# Altium integrated library Capacitors - Ceramic - 0402.IntLib: 4569 symbols (part 97 of 100)
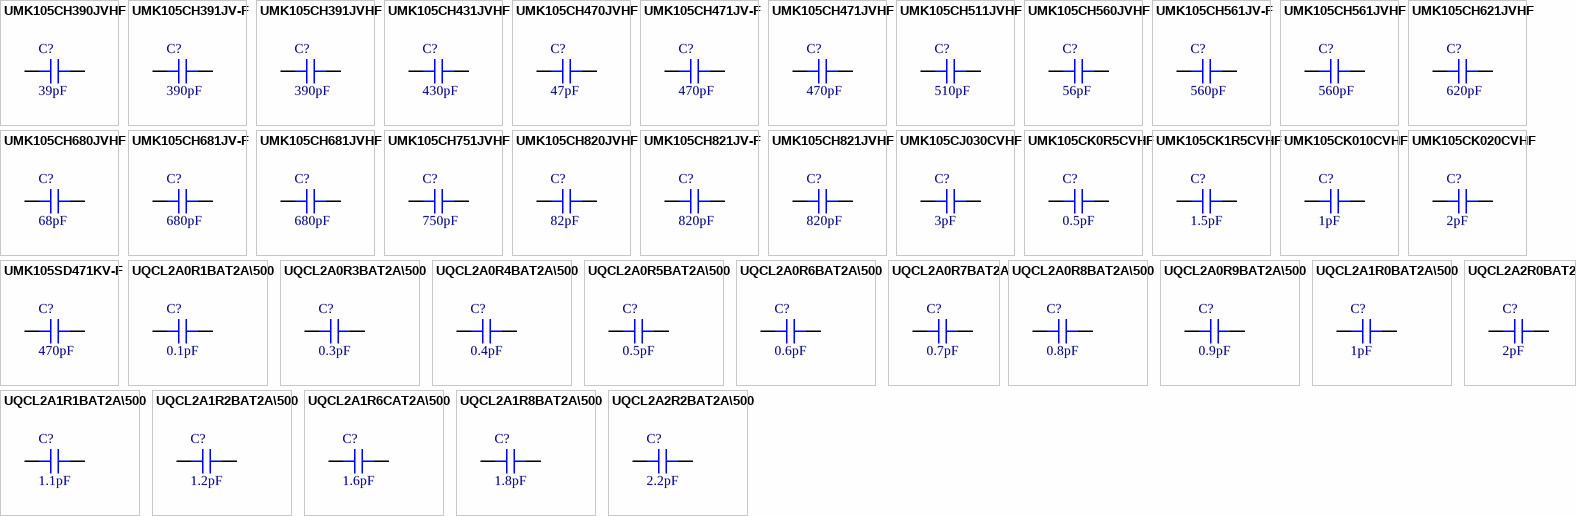
[diagram p210: symbols UMK105CH390JVHF to UQCL2A2R2BAT2A\500]

## UMK105CH470JVHF
designator C?, comment 47pF
CAP CER 47PF 50V CH 0402; Part Number: UMK105CH470JVHF; Manufacturer: Taiyo Yuden; Tolerance: ±5%; Value: 47pF; Applications: Automotive; Capacitance: 47pF; ComponentLink2Description: DigiKey Link; ComponentLink2URL: http://digikey.com/product-detail/en/taiyo-yuden/UMK105CH470JVHF/587-5087-1-ND/6563930; Device Package: 0402 (1005 Metric); LastUpdated: 9/2/2020 1:02:10 AM; Lifecycle Status: Active; Minimum Order: 1; Mounting Type: Surface Mount, MLCC; Package / Case: 0402 (1005 Metric); Packaging: TapeAndReel; PartId: 8107; Part Status: Active; Price: 0.01; Ratings: AEC-Q200; Series: M; Size / Dimension: 0.039" L x 0.020" W (1.00mm x 0.50mm); Supplier 1: DigiKey; Supplier Part Number 1: 587-5087-1-ND; Temperature Coefficient: CH; Voltage - Rated: 50V
footprint CAP 0402_1005
pins: 1, 2

## UMK105CH471JV-F
designator C?, comment 470pF
CAP CER 470PF 50V C0H SMD; Part Number: UMK105CH471JV-F; Manufacturer: Taiyo Yuden; Tolerance: ±5%; Value: 470pF; Applications: General Purpose; Capacitance: 470pF; ComponentLink1Description: Datasheet; ComponentLink1URL: //media.digikey.com/pdf/Data%20Sheets/Taiyo%20Yuden%20PDFs%20URL%20links/Standard_Multilayer_Ceramic_Caps_Rev11.pdf; ComponentLink2Description: DigiKey Link; ComponentLink2URL: http://digikey.com/product-detail/en/taiyo-yuden/UMK105CH471JV-F/587-5088-1-ND/6563931; Device Package: 0402 (1005 Metric); LastUpdated: 9/2/2020 1:02:06 AM; Lifecycle Status: Active; Minimum Order: 1; Mounting Type: Surface Mount, MLCC; Operating Temperature: -55°C ~ 125°C; Package / Case: 0402 (1005 Metric); Packaging: CutTape; PartId: 9961; Part Status: Active; Price: 0.10; Series: M; Size / Dimension: 0.039" L x 0.020" W (1.00mm x 0.50mm); Supplier 1: DigiKey; Supplier Part Number 1: 587-5088-1-ND; Temperature Coefficient: C0H; Thickness (Max): 0.022" (0.55mm); Voltage - Rated: 50V
footprint CAP 0402_1005
pins: 1, 2

## UMK105CH471JVHF
designator C?, comment 470pF
CAP CER 470PF 50V CH 0402; Part Number: UMK105CH471JVHF; Manufacturer: Taiyo Yuden; Tolerance: ±5%; Value: 470pF; Applications: Automotive; Capacitance: 470pF; ComponentLink2Description: DigiKey Link; ComponentLink2URL: http://digikey.com/product-detail/en/taiyo-yuden/UMK105CH471JVHF/587-5089-1-ND/6563932; Device Package: 0402 (1005 Metric); LastUpdated: 9/2/2020 1:02:11 AM; Lifecycle Status: Active; Minimum Order: 1; Mounting Type: Surface Mount, MLCC; Package / Case: 0402 (1005 Metric); Packaging: TapeAndReel; PartId: 7836; Part Status: Active; Price: 0.01; Ratings: AEC-Q200; Series: M; Size / Dimension: 0.039" L x 0.020" W (1.00mm x 0.50mm); Supplier 1: DigiKey; Supplier Part Number 1: 587-5089-1-ND; Temperature Coefficient: CH; Voltage - Rated: 50V
footprint CAP 0402_1005
pins: 1, 2

## UMK105CH511JVHF
designator C?, comment 510pF
CAP CER 510PF 50V CH 0402; Part Number: UMK105CH511JVHF; Manufacturer: Taiyo Yuden; Tolerance: ±5%; Value: 510pF; Applications: Automotive; Capacitance: 510pF; ComponentLink2Description: DigiKey Link; ComponentLink2URL: http://digikey.com/product-detail/en/taiyo-yuden/UMK105CH511JVHF/587-5090-1-ND/6563933; Device Package: 0402 (1005 Metric); LastUpdated: 9/2/2020 1:02:16 AM; Lifecycle Status: Active; Minimum Order: 1; Mounting Type: Surface Mount, MLCC; Package / Case: 0402 (1005 Metric); Packaging: TapeAndReel; PartId: 5204; Part Status: Active; Price: 0.01; Ratings: AEC-Q200; Series: M; Size / Dimension: 0.039" L x 0.020" W (1.00mm x 0.50mm); Supplier 1: DigiKey; Supplier Part Number 1: 587-5090-1-ND; Temperature Coefficient: CH; Voltage - Rated: 50V
footprint CAP 0402_1005
pins: 1, 2

## UMK105CH560JVHF
designator C?, comment 56pF
CAP CER 56PF 50V CH 0402; Part Number: UMK105CH560JVHF; Manufacturer: Taiyo Yuden; Tolerance: ±5%; Value: 56pF; Applications: Automotive; Capacitance: 56pF; ComponentLink2Description: DigiKey Link; ComponentLink2URL: http://digikey.com/product-detail/en/taiyo-yuden/UMK105CH560JVHF/587-5091-1-ND/6563934; Device Package: 0402 (1005 Metric); LastUpdated: 9/2/2020 1:02:24 AM; Lifecycle Status: Active; Minimum Order: 1; Mounting Type: Surface Mount, MLCC; Package / Case: 0402 (1005 Metric); Packaging: TapeAndReel; PartId: 1916; Part Status: Active; Price: 0.01; Ratings: AEC-Q200; Series: M; Size / Dimension: 0.039" L x 0.020" W (1.00mm x 0.50mm); Supplier 1: DigiKey; Supplier Part Number 1: 587-5091-1-ND; Temperature Coefficient: CH; Voltage - Rated: 50V
footprint CAP 0402_1005
pins: 1, 2

## UMK105CH561JV-F
designator C?, comment 560pF
CAP CER 560PF 50V C0H SMD; Part Number: UMK105CH561JV-F; Manufacturer: Taiyo Yuden; Tolerance: ±5%; Value: 560pF; Applications: General Purpose; Capacitance: 560pF; ComponentLink1Description: Datasheet; ComponentLink1URL: //media.digikey.com/pdf/Data%20Sheets/Taiyo%20Yuden%20PDFs%20URL%20links/Standard_Multilayer_Ceramic_Caps_Rev11.pdf; ComponentLink2Description: DigiKey Link; ComponentLink2URL: http://digikey.com/product-detail/en/taiyo-yuden/UMK105CH561JV-F/587-5092-1-ND/6563935; Device Package: 0402 (1005 Metric); LastUpdated: 9/2/2020 1:02:25 AM; Lifecycle Status: Active; Minimum Order: 1; Mounting Type: Surface Mount, MLCC; Operating Temperature: -55°C ~ 125°C; Package / Case: 0402 (1005 Metric); Packaging: TapeAndReel; PartId: 1874; Part Status: Active; Price: 0.01; Series: M; Size / Dimension: 0.039" L x 0.020" W (1.00mm x 0.50mm); Supplier 1: DigiKey; Supplier Part Number 1: 587-5092-1-ND; Temperature Coefficient: C0H; Thickness (Max): 0.022" (0.55mm); Voltage - Rated: 50V
footprint CAP 0402_1005
pins: 1, 2

## UMK105CH561JVHF
designator C?, comment 560pF
CAP CER 560PF 50V CH 0402; Part Number: UMK105CH561JVHF; Manufacturer: Taiyo Yuden; Tolerance: ±5%; Value: 560pF; Applications: Automotive; Capacitance: 560pF; ComponentLink2Description: DigiKey Link; ComponentLink2URL: http://digikey.com/product-detail/en/taiyo-yuden/UMK105CH561JVHF/587-5093-1-ND/6563936; Device Package: 0402 (1005 Metric); LastUpdated: 9/2/2020 1:02:17 AM; Lifecycle Status: Active; Minimum Order: 1; Mounting Type: Surface Mount, MLCC; Package / Case: 0402 (1005 Metric); Packaging: TapeAndReel; PartId: 5173; Part Status: Active; Price: 0.01; Ratings: AEC-Q200; Series: M; Size / Dimension: 0.039" L x 0.020" W (1.00mm x 0.50mm); Supplier 1: DigiKey; Supplier Part Number 1: 587-5093-1-ND; Temperature Coefficient: CH; Voltage - Rated: 50V
footprint CAP 0402_1005
pins: 1, 2

## UMK105CH621JVHF
designator C?, comment 620pF
CAP CER 620PF 50V CH 0402; Part Number: UMK105CH621JVHF; Manufacturer: Taiyo Yuden; Tolerance: ±5%; Value: 620pF; Applications: Automotive; Capacitance: 620pF; ComponentLink2Description: DigiKey Link; ComponentLink2URL: http://digikey.com/product-detail/en/taiyo-yuden/UMK105CH621JVHF/587-5094-1-ND/6563937; Device Package: 0402 (1005 Metric); LastUpdated: 9/2/2020 1:02:12 AM; Lifecycle Status: Active; Minimum Order: 1; Mounting Type: Surface Mount, MLCC; Package / Case: 0402 (1005 Metric); Packaging: TapeAndReel; PartId: 7377; Part Status: Active; Price: 0.01; Ratings: AEC-Q200; Series: M; Size / Dimension: 0.039" L x 0.020" W (1.00mm x 0.50mm); Supplier 1: DigiKey; Supplier Part Number 1: 587-5094-1-ND; Temperature Coefficient: CH; Voltage - Rated: 50V
footprint CAP 0402_1005
pins: 1, 2

## UMK105CH680JVHF
designator C?, comment 68pF
CAP CER 68PF 50V CH 0402; Part Number: UMK105CH680JVHF; Manufacturer: Taiyo Yuden; Tolerance: ±5%; Value: 68pF; Applications: Automotive; Capacitance: 68pF; ComponentLink2Description: DigiKey Link; ComponentLink2URL: http://digikey.com/product-detail/en/taiyo-yuden/UMK105CH680JVHF/587-5095-1-ND/6563938; Device Package: 0402 (1005 Metric); LastUpdated: 9/2/2020 1:02:24 AM; Lifecycle Status: Active; Minimum Order: 1; Mounting Type: Surface Mount, MLCC; Package / Case: 0402 (1005 Metric); Packaging: TapeAndReel; PartId: 1967; Part Status: Active; Price: 0.01; Ratings: AEC-Q200; Series: M; Size / Dimension: 0.039" L x 0.020" W (1.00mm x 0.50mm); Supplier 1: DigiKey; Supplier Part Number 1: 587-5095-1-ND; Temperature Coefficient: CH; Voltage - Rated: 50V
footprint CAP 0402_1005
pins: 1, 2

## UMK105CH681JV-F
designator C?, comment 680pF
CAP CER 680PF 50V C0H SMD; Part Number: UMK105CH681JV-F; Manufacturer: Taiyo Yuden; Tolerance: ±5%; Value: 680pF; Applications: General Purpose; Capacitance: 680pF; ComponentLink1Description: Datasheet; ComponentLink1URL: //media.digikey.com/pdf/Data%20Sheets/Taiyo%20Yuden%20PDFs%20URL%20links/Standard_Multilayer_Ceramic_Caps_Rev11.pdf; ComponentLink2Description: DigiKey Link; ComponentLink2URL: http://digikey.com/product-detail/en/taiyo-yuden/UMK105CH681JV-F/587-5096-1-ND/6563939; Device Package: 0402 (1005 Metric); LastUpdated: 9/2/2020 1:02:08 AM; Lifecycle Status: Active; Minimum Order: 1; Mounting Type: Surface Mount, MLCC; Operating Temperature: -55°C ~ 125°C; Package / Case: 0402 (1005 Metric); Packaging: TapeAndReel; PartId: 8973; Part Status: Active; Price: 0.01; Series: M; Size / Dimension: 0.039" L x 0.020" W (1.00mm x 0.50mm); Supplier 1: DigiKey; Supplier Part Number 1: 587-5096-1-ND; Temperature Coefficient: C0H; Thickness (Max): 0.022" (0.55mm); Voltage - Rated: 50V
footprint CAP 0402_1005
pins: 1, 2

## UMK105CH681JVHF
designator C?, comment 680pF
CAP CER 680PF 50V CH 0402; Part Number: UMK105CH681JVHF; Manufacturer: Taiyo Yuden; Tolerance: ±5%; Value: 680pF; Applications: Automotive; Capacitance: 680pF; ComponentLink2Description: DigiKey Link; ComponentLink2URL: http://digikey.com/product-detail/en/taiyo-yuden/UMK105CH681JVHF/587-5097-1-ND/6563940; Device Package: 0402 (1005 Metric); LastUpdated: 9/2/2020 1:02:11 AM; Lifecycle Status: Active; Minimum Order: 1; Mounting Type: Surface Mount, MLCC; Package / Case: 0402 (1005 Metric); Packaging: TapeAndReel; PartId: 7858; Part Status: Active; Price: 0.01; Ratings: AEC-Q200; Series: M; Size / Dimension: 0.039" L x 0.020" W (1.00mm x 0.50mm); Supplier 1: DigiKey; Supplier Part Number 1: 587-5097-1-ND; Temperature Coefficient: CH; Voltage - Rated: 50V
footprint CAP 0402_1005
pins: 1, 2

## UMK105CH751JVHF
designator C?, comment 750pF
CAP CER 750PF 50V CH 0402; Part Number: UMK105CH751JVHF; Manufacturer: Taiyo Yuden; Tolerance: ±5%; Value: 750pF; Applications: Automotive; Capacitance: 750pF; ComponentLink2Description: DigiKey Link; ComponentLink2URL: http://digikey.com/product-detail/en/taiyo-yuden/UMK105CH751JVHF/587-5098-1-ND/6563941; Device Package: 0402 (1005 Metric); LastUpdated: 9/2/2020 1:02:17 AM; Lifecycle Status: Active; Minimum Order: 1; Mounting Type: Surface Mount, MLCC; Package / Case: 0402 (1005 Metric); Packaging: TapeAndReel; PartId: 5147; Part Status: Active; Price: 0.01; Ratings: AEC-Q200; Series: M; Size / Dimension: 0.039" L x 0.020" W (1.00mm x 0.50mm); Supplier 1: DigiKey; Supplier Part Number 1: 587-5098-1-ND; Temperature Coefficient: CH; Voltage - Rated: 50V
footprint CAP 0402_1005
pins: 1, 2

## UMK105CH820JVHF
designator C?, comment 82pF
CAP CER 82PF 50V CH 0402; Part Number: UMK105CH820JVHF; Manufacturer: Taiyo Yuden; Tolerance: ±5%; Value: 82pF; Applications: Automotive; Capacitance: 82pF; ComponentLink2Description: DigiKey Link; ComponentLink2URL: http://digikey.com/product-detail/en/taiyo-yuden/UMK105CH820JVHF/587-5099-1-ND/6563942; Device Package: 0402 (1005 Metric); LastUpdated: 9/2/2020 1:02:20 AM; Lifecycle Status: Active; Minimum Order: 1; Mounting Type: Surface Mount, MLCC; Package / Case: 0402 (1005 Metric); Packaging: TapeAndReel; PartId: 3603; Part Status: Active; Price: 0.01; Ratings: AEC-Q200; Series: M; Size / Dimension: 0.039" L x 0.020" W (1.00mm x 0.50mm); Supplier 1: DigiKey; Supplier Part Number 1: 587-5099-1-ND; Temperature Coefficient: CH; Voltage - Rated: 50V
footprint CAP 0402_1005
pins: 1, 2

## UMK105CH821JV-F
designator C?, comment 820pF
CAP CER 820PF 50V C0H SMD; Part Number: UMK105CH821JV-F; Manufacturer: Taiyo Yuden; Tolerance: ±5%; Value: 820pF; Applications: General Purpose; Capacitance: 820pF; ComponentLink1Description: Datasheet; ComponentLink1URL: //media.digikey.com/pdf/Data%20Sheets/Taiyo%20Yuden%20PDFs%20URL%20links/Standard_Multilayer_Ceramic_Caps_Rev11.pdf; ComponentLink2Description: DigiKey Link; ComponentLink2URL: http://digikey.com/product-detail/en/taiyo-yuden/UMK105CH821JV-F/587-5100-1-ND/6563943; Device Package: 0402 (1005 Metric); LastUpdated: 9/2/2020 1:02:24 AM; Lifecycle Status: Active; Minimum Order: 1; Mounting Type: Surface Mount, MLCC; Operating Temperature: -55°C ~ 125°C; Package / Case: 0402 (1005 Metric); Packaging: TapeAndReel; PartId: 1920; Part Status: Active; Price: 0.01; Series: M; Size / Dimension: 0.039" L x 0.020" W (1.00mm x 0.50mm); Supplier 1: DigiKey; Supplier Part Number 1: 587-5100-1-ND; Temperature Coefficient: C0H; Thickness (Max): 0.022" (0.55mm); Voltage - Rated: 50V
footprint CAP 0402_1005
pins: 1, 2

## UMK105CH821JVHF
designator C?, comment 820pF
CAP CER 820PF 50V CH 0402; Part Number: UMK105CH821JVHF; Manufacturer: Taiyo Yuden; Tolerance: ±5%; Value: 820pF; Applications: Automotive; Capacitance: 820pF; ComponentLink2Description: DigiKey Link; ComponentLink2URL: http://digikey.com/product-detail/en/taiyo-yuden/UMK105CH821JVHF/587-5101-1-ND/6563944; Device Package: 0402 (1005 Metric); LastUpdated: 9/2/2020 1:02:16 AM; Lifecycle Status: Active; Minimum Order: 1; Mounting Type: Surface Mount, MLCC; Package / Case: 0402 (1005 Metric); Packaging: TapeAndReel; PartId: 5207; Part Status: Active; Price: 0.01; Ratings: AEC-Q200; Series: M; Size / Dimension: 0.039" L x 0.020" W (1.00mm x 0.50mm); Supplier 1: DigiKey; Supplier Part Number 1: 587-5101-1-ND; Temperature Coefficient: CH; Voltage - Rated: 50V
footprint CAP 0402_1005
pins: 1, 2

## UMK105CJ030CVHF
designator C?, comment 3pF
CAP CER 3PF 50V CH 0402; Part Number: UMK105CJ030CVHF; Manufacturer: Taiyo Yuden; Tolerance: ±0.25pF; Value: 3pF; Applications: Automotive; Capacitance: 3pF; ComponentLink2Description: DigiKey Link; ComponentLink2URL: http://digikey.com/product-detail/en/taiyo-yuden/UMK105CJ030CVHF/587-5102-1-ND/6563945; Device Package: 0402 (1005 Metric); LastUpdated: 9/2/2020 1:02:24 AM; Lifecycle Status: Active; Minimum Order: 1; Mounting Type: Surface Mount, MLCC; Package / Case: 0402 (1005 Metric); Packaging: TapeAndReel; PartId: 1895; Part Status: Active; Price: 0.01; Ratings: AEC-Q200; Series: M; Size / Dimension: 0.039" L x 0.020" W (1.00mm x 0.50mm); Supplier 1: DigiKey; Supplier Part Number 1: 587-5102-1-ND; Temperature Coefficient: CH; Voltage - Rated: 50V
footprint CAP 0402_1005
pins: 1, 2

## UMK105CK0R5CVHF
designator C?, comment 0.5pF
CAP CER 0.5PF 50V CH 0402; Part Number: UMK105CK0R5CVHF; Manufacturer: Taiyo Yuden; Tolerance: ±0.25pF; Value: 0.5pF; Applications: Automotive; Capacitance: 0.5pF; ComponentLink2Description: DigiKey Link; ComponentLink2URL: http://digikey.com/product-detail/en/taiyo-yuden/UMK105CK0R5CVHF/587-5105-1-ND/6563948; Device Package: 0402 (1005 Metric); LastUpdated: 9/2/2020 1:02:24 AM; Lifecycle Status: Active; Minimum Order: 1; Mounting Type: Surface Mount, MLCC; Package / Case: 0402 (1005 Metric); Packaging: TapeAndReel; PartId: 1885; Part Status: Active; Price: 0.01; Ratings: AEC-Q200; Series: M; Size / Dimension: 0.039" L x 0.020" W (1.00mm x 0.50mm); Supplier 1: DigiKey; Supplier Part Number 1: 587-5105-1-ND; Temperature Coefficient: CH; Voltage - Rated: 50V
footprint CAP 0402_1005
pins: 1, 2

## UMK105CK1R5CVHF
designator C?, comment 1.5pF
CAP CER 1.5PF 50V CH 0402; Part Number: UMK105CK1R5CVHF; Manufacturer: Taiyo Yuden; Tolerance: ±0.25pF; Value: 1.5pF; Applications: Automotive; Capacitance: 1.5pF; ComponentLink2Description: DigiKey Link; ComponentLink2URL: http://digikey.com/product-detail/en/taiyo-yuden/UMK105CK1R5CVHF/587-5106-1-ND/6563949; Device Package: 0402 (1005 Metric); LastUpdated: 9/2/2020 1:02:25 AM; Lifecycle Status: Active; Minimum Order: 1; Mounting Type: Surface Mount, MLCC; Package / Case: 0402 (1005 Metric); Packaging: TapeAndReel; PartId: 1867; Part Status: Active; Price: 0.01; Ratings: AEC-Q200; Series: M; Size / Dimension: 0.039" L x 0.020" W (1.00mm x 0.50mm); Supplier 1: DigiKey; Supplier Part Number 1: 587-5106-1-ND; Temperature Coefficient: CH; Voltage - Rated: 50V
footprint CAP 0402_1005
pins: 1, 2

## UMK105CK010CVHF
designator C?, comment 1pF
CAP CER 1PF 50V CH 0402; Part Number: UMK105CK010CVHF; Manufacturer: Taiyo Yuden; Tolerance: ±0.25pF; Value: 1pF; Applications: Automotive; Capacitance: 1pF; ComponentLink2Description: DigiKey Link; ComponentLink2URL: http://digikey.com/product-detail/en/taiyo-yuden/UMK105CK010CVHF/587-5103-1-ND/6563946; Device Package: 0402 (1005 Metric); LastUpdated: 9/2/2020 1:02:24 AM; Lifecycle Status: Active; Minimum Order: 1; Mounting Type: Surface Mount, MLCC; Package / Case: 0402 (1005 Metric); Packaging: TapeAndReel; PartId: 1981; Part Status: Active; Price: 0.01; Ratings: AEC-Q200; Series: M; Size / Dimension: 0.039" L x 0.020" W (1.00mm x 0.50mm); Supplier 1: DigiKey; Supplier Part Number 1: 587-5103-1-ND; Temperature Coefficient: CH; Voltage - Rated: 50V
footprint CAP 0402_1005
pins: 1, 2

## UMK105CK020CVHF
designator C?, comment 2pF
CAP CER 2PF 50V CH 0402; Part Number: UMK105CK020CVHF; Manufacturer: Taiyo Yuden; Tolerance: ±0.25pF; Value: 2pF; Applications: Automotive; Capacitance: 2pF; ComponentLink2Description: DigiKey Link; ComponentLink2URL: http://digikey.com/product-detail/en/taiyo-yuden/UMK105CK020CVHF/587-5104-1-ND/6563947; Device Package: 0402 (1005 Metric); LastUpdated: 9/2/2020 1:02:20 AM; Lifecycle Status: Active; Minimum Order: 1; Mounting Type: Surface Mount, MLCC; Package / Case: 0402 (1005 Metric); Packaging: TapeAndReel; PartId: 3601; Part Status: Active; Price: 0.01; Ratings: AEC-Q200; Series: M; Size / Dimension: 0.039" L x 0.020" W (1.00mm x 0.50mm); Supplier 1: DigiKey; Supplier Part Number 1: 587-5104-1-ND; Temperature Coefficient: CH; Voltage - Rated: 50V
footprint CAP 0402_1005
pins: 1, 2

## UMK105SD471KV-F
designator C?, comment 470pF
CAP CER 470PF 50V 0402; Part Number: UMK105SD471KV-F; Manufacturer: Taiyo Yuden; Tolerance: ±10%; Value: 470pF; Applications: RF, Microwave, High Frequency; Capacitance: 470pF; ComponentLink1Description: Datasheet; ComponentLink1URL: https://ds.yuden.co.jp/TYCOMPAS/ut/detail?pn=UMK105SD471KV-F  &u=M; ComponentLink2Description: DigiKey Link; ComponentLink2URL: http://digikey.com/product-detail/en/taiyo-yuden/UMK105SD471KV-F/587-1463-1-ND/1004094; Device Package: 0402 (1005 Metric); Features: Low Distortion; LastUpdated: 9/2/2020 1:02:12 AM; Lifecycle Status: Active; Minimum Order: 1; Mounting Type: Surface Mount, MLCC; Operating Temperature: -55°C ~ 125°C; Package / Case: 0402 (1005 Metric); Packaging: TapeAndReel; PartId: 7217; Part Status: Active; Price: 0.07; Series: CFCAP™; Size / Dimension: 0.039" L x 0.020" W (1.00mm x 0.50mm); Supplier 1: DigiKey; Supplier Part Number 1: 587-1463-1-ND; Thickness (Max): 0.022" (0.55mm); Voltage - Rated: 50V
footprint CAP 0402_1005
pins: 1, 2

## UQCL2A0R1BAT2A\500
designator C?, comment 0.1pF
CAP CER 0.1PF 200V 0402; Part Number: UQCL2A0R1BAT2A\500; Manufacturer: AVX Corporation; Temperature Coefficient: A; Value: 0.1pF; Applications: RF, Microwave, High Frequency; Capacitance: 0.1pF; ComponentLink1Description: Datasheet; ComponentLink1URL: http://datasheets.avx.com/UQ-Series.pdf; ComponentLink2Description: DigiKey Link; ComponentLink2URL: http://digikey.com/product-detail/en/avx-corporation/UQCL2A0R1BAT2A-500/478-6392-1-ND/2512228; Device Package: 0402 (1005 Metric); Features: High Q, Low Loss; LastUpdated: 9/2/2020 1:02:07 AM; Lifecycle Status: Active; Minimum Order: 1; Mounting Type: Surface Mount, MLCC; Operating Temperature: -55°C ~ 125°C; Package / Case: 0402 (1005 Metric); Packaging: TapeAndReel; PartId: 9468; Part Status: Active; Price: 0.27; Series: UQ; Size / Dimension: 0.040" L x 0.020" W (1.02mm x 0.51mm); Supplier 1: DigiKey; Supplier Part Number 1: 478-6392-1-ND; Thickness (Max): 0.024" (0.60mm); Tolerance: ±0.1pF; Voltage - Rated: 200V
footprint CAP 0402_1005
pins: 1, 2

## UQCL2A0R3BAT2A\500
designator C?, comment 0.3pF
CAP CER 0.3PF 200V 0402; Part Number: UQCL2A0R3BAT2A\500; Manufacturer: AVX Corporation; Temperature Coefficient: A; Tolerance: ±0.1pF; Value: 0.3pF; Applications: RF, Microwave, High Frequency; Capacitance: 0.3pF; ComponentLink1Description: Datasheet; ComponentLink1URL: http://datasheets.avx.com/UQ-Series.pdf; ComponentLink2Description: DigiKey Link; ComponentLink2URL: http://digikey.com/product-detail/en/avx-corporation/UQCL2A0R3BAT2A-500/478-6394-1-ND/2512230; Device Package: 0402 (1005 Metric); Features: High Q, Low Loss; LastUpdated: 9/2/2020 1:01:17 AM; Lifecycle Status: Active; Minimum Order: 1; Mounting Type: Surface Mount, MLCC; Operating Temperature: -55°C ~ 125°C; Package / Case: 0402 (1005 Metric); Packaging: TapeAndReel; PartId: 13344; Part Status: Active; Price: 0.27; Series: UQ; Size / Dimension: 0.040" L x 0.020" W (1.02mm x 0.51mm); Supplier 1: DigiKey; Supplier Part Number 1: 478-6394-1-ND; Thickness (Max): 0.024" (0.60mm); Voltage - Rated: 200V
footprint CAP 0402_1005
pins: 1, 2

## UQCL2A0R4BAT2A\500
designator C?, comment 0.4pF
CAP CER 0.4PF 200V 0402; Part Number: UQCL2A0R4BAT2A\500; Manufacturer: AVX Corporation; Temperature Coefficient: A; Tolerance: ±0.1pF; Value: 0.4pF; Applications: RF, Microwave, High Frequency; Capacitance: 0.4pF; ComponentLink1Description: Datasheet; ComponentLink1URL: http://datasheets.avx.com/UQ-Series.pdf; ComponentLink2Description: DigiKey Link; ComponentLink2URL: http://digikey.com/product-detail/en/avx-corporation/UQCL2A0R4BAT2A-500/478-6395-1-ND/2512231; Device Package: 0402 (1005 Metric); Features: High Q, Low Loss; LastUpdated: 9/2/2020 1:02:20 AM; Lifecycle Status: Active; Minimum Order: 1; Mounting Type: Surface Mount, MLCC; Operating Temperature: -55°C ~ 125°C; Package / Case: 0402 (1005 Metric); Packaging: TapeAndReel; PartId: 3843; Part Status: Active; Price: 0.27; Series: UQ; Size / Dimension: 0.040" L x 0.020" W (1.02mm x 0.51mm); Supplier 1: DigiKey; Supplier Part Number 1: 478-6395-1-ND; Thickness (Max): 0.024" (0.60mm); Voltage - Rated: 200V
footprint CAP 0402_1005
pins: 1, 2

## UQCL2A0R5BAT2A\500
designator C?, comment 0.5pF
CAP CER 0.5PF 200V 0402; Part Number: UQCL2A0R5BAT2A\500; Manufacturer: AVX Corporation; Temperature Coefficient: A; Tolerance: ±0.1pF; Value: 0.5pF; Applications: RF, Microwave, High Frequency; Capacitance: 0.5pF; ComponentLink1Description: Datasheet; ComponentLink1URL: http://datasheets.avx.com/UQ-Series.pdf; ComponentLink2Description: DigiKey Link; ComponentLink2URL: http://digikey.com/product-detail/en/avx-corporation/UQCL2A0R5BAT2A-500/478-6396-1-ND/2512232; Device Package: 0402 (1005 Metric); Features: High Q, Low Loss; LastUpdated: 9/2/2020 1:01:45 AM; Lifecycle Status: Active; Minimum Order: 1; Mounting Type: Surface Mount, MLCC; Operating Temperature: -55°C ~ 125°C; Package / Case: 0402 (1005 Metric); Packaging: TapeAndReel; PartId: 12368; Part Status: Active; Price: 0.27; Series: UQ; Size / Dimension: 0.040" L x 0.020" W (1.02mm x 0.51mm); Supplier 1: DigiKey; Supplier Part Number 1: 478-6396-1-ND; Thickness (Max): 0.024" (0.60mm); Voltage - Rated: 200V
footprint CAP 0402_1005
pins: 1, 2

## UQCL2A0R6BAT2A\500
designator C?, comment 0.6pF
CAP CER 0.6PF 200V 0402; Part Number: UQCL2A0R6BAT2A\500; Manufacturer: AVX Corporation; Temperature Coefficient: A; Tolerance: ±0.1pF; Value: 0.6pF; Applications: RF, Microwave, High Frequency; Capacitance: 0.6pF; ComponentLink1Description: Datasheet; ComponentLink1URL: http://datasheets.avx.com/UQ-Series.pdf; ComponentLink2Description: DigiKey Link; ComponentLink2URL: http://digikey.com/product-detail/en/avx-corporation/UQCL2A0R6BAT2A-500/478-6397-1-ND/2512233; Device Package: 0402 (1005 Metric); Features: High Q, Low Loss; LastUpdated: 9/2/2020 1:02:07 AM; Lifecycle Status: Active; Minimum Order: 1; Mounting Type: Surface Mount, MLCC; Operating Temperature: -55°C ~ 125°C; Package / Case: 0402 (1005 Metric); Packaging: TapeAndReel; PartId: 9471; Part Status: Active; Price: 0.27; Series: UQ; Size / Dimension: 0.040" L x 0.020" W (1.02mm x 0.51mm); Supplier 1: DigiKey; Supplier Part Number 1: 478-6397-1-ND; Thickness (Max): 0.024" (0.60mm); Voltage - Rated: 200V
footprint CAP 0402_1005
pins: 1, 2

## UQCL2A0R7BAT2A
designator C?, comment 0.7pF
CAP CER 0.7PF 200V 0402; Part Number: UQCL2A0R7BAT2A; Manufacturer: AVX Corporation; Temperature Coefficient: A; Tolerance: ±0.1pF; Value: 0.7pF; Applications: RF, Microwave, High Frequency; Capacitance: 0.7pF; ComponentLink1Description: Datasheet; ComponentLink1URL: http://datasheets.avx.com/UQ-Series.pdf; ComponentLink2Description: DigiKey Link; ComponentLink2URL: http://digikey.com/product-detail/en/avx-corporation/UQCL2A0R7BAT2A/478-6398-1-ND/2512234; Device Package: 0402 (1005 Metric); Features: High Q, Low Loss; LastUpdated: 9/2/2020 1:01:45 AM; Lifecycle Status: Active; Minimum Order: 1; Mounting Type: Surface Mount, MLCC; Operating Temperature: -55°C ~ 125°C; Package / Case: 0402 (1005 Metric); Packaging: TapeAndReel; PartId: 12370; Part Status: Active; Price: 0.27; Series: UQ; Size / Dimension: 0.040" L x 0.020" W (1.02mm x 0.51mm); Supplier 1: DigiKey; Supplier Part Number 1: 478-6398-1-ND; Thickness (Max): 0.024" (0.60mm); Voltage - Rated: 200V
footprint CAP 0402_1005
pins: 1, 2

## UQCL2A0R8BAT2A\500
designator C?, comment 0.8pF
CAP CER 0.8PF 200V 0402; Part Number: UQCL2A0R8BAT2A\500; Manufacturer: AVX Corporation; Temperature Coefficient: A; Tolerance: ±0.1pF; Value: 0.8pF; Applications: RF, Microwave, High Frequency; Capacitance: 0.8pF; ComponentLink1Description: Datasheet; ComponentLink1URL: http://datasheets.avx.com/UQ-Series.pdf; ComponentLink2Description: DigiKey Link; ComponentLink2URL: http://digikey.com/product-detail/en/avx-corporation/UQCL2A0R8BAT2A-500/478-6399-1-ND/2512235; Device Package: 0402 (1005 Metric); Features: High Q, Low Loss; LastUpdated: 9/2/2020 1:02:07 AM; Lifecycle Status: Active; Minimum Order: 1; Mounting Type: Surface Mount, MLCC; Operating Temperature: -55°C ~ 125°C; Package / Case: 0402 (1005 Metric); Packaging: TapeAndReel; PartId: 9484; Part Status: Active; Price: 0.31; Series: UQ; Size / Dimension: 0.040" L x 0.020" W (1.02mm x 0.51mm); Supplier 1: DigiKey; Supplier Part Number 1: 478-6399-1-ND; Thickness (Max): 0.024" (0.60mm); Voltage - Rated: 200V
footprint CAP 0402_1005
pins: 1, 2

## UQCL2A0R9BAT2A\500
designator C?, comment 0.9pF
CAP CER 0.9PF 200V 0402; Part Number: UQCL2A0R9BAT2A\500; Manufacturer: AVX Corporation; Temperature Coefficient: A; Tolerance: ±0.1pF; Value: 0.9pF; Applications: RF, Microwave, High Frequency; Capacitance: 0.9pF; ComponentLink1Description: Datasheet; ComponentLink1URL: http://datasheets.avx.com/UQ-Series.pdf; ComponentLink2Description: DigiKey Link; ComponentLink2URL: http://digikey.com/product-detail/en/avx-corporation/UQCL2A0R9BAT2A-500/478-6400-1-ND/2512236; Device Package: 0402 (1005 Metric); Features: High Q, Low Loss; LastUpdated: 9/2/2020 1:02:06 AM; Lifecycle Status: Active; Minimum Order: 1; Mounting Type: Surface Mount, MLCC; Operating Temperature: -55°C ~ 125°C; Package / Case: 0402 (1005 Metric); Packaging: TapeAndReel; PartId: 9872; Part Status: Active; Price: 0.31; Series: UQ; Size / Dimension: 0.040" L x 0.020" W (1.02mm x 0.51mm); Supplier 1: DigiKey; Supplier Part Number 1: 478-6400-1-ND; Thickness (Max): 0.024" (0.60mm); Voltage - Rated: 200V
footprint CAP 0402_1005
pins: 1, 2

## UQCL2A1R0BAT2A\500
designator C?, comment 1pF
CAP CER 1PF 200V 0402; Part Number: UQCL2A1R0BAT2A\500; Manufacturer: AVX Corporation; Temperature Coefficient: A; Tolerance: ±0.1pF; Value: 1pF; Applications: RF, Microwave, High Frequency; Capacitance: 1pF; ComponentLink1Description: Datasheet; ComponentLink1URL: http://datasheets.avx.com/UQ-Series.pdf; ComponentLink2Description: DigiKey Link; ComponentLink2URL: http://digikey.com/product-detail/en/avx-corporation/UQCL2A1R0BAT2A-500/478-6401-1-ND/2512237; Device Package: 0402 (1005 Metric); Features: High Q, Low Loss; LastUpdated: 9/2/2020 1:02:07 AM; Lifecycle Status: Active; Minimum Order: 1; Mounting Type: Surface Mount, MLCC; Operating Temperature: -55°C ~ 125°C; Package / Case: 0402 (1005 Metric); Packaging: TapeAndReel; PartId: 9499; Part Status: Active; Price: 0.34; Series: UQ; Size / Dimension: 0.040" L x 0.020" W (1.02mm x 0.51mm); Supplier 1: DigiKey; Supplier Part Number 1: 478-6401-1-ND; Thickness (Max): 0.024" (0.60mm); Voltage - Rated: 200V
footprint CAP 0402_1005
pins: 1, 2

## UQCL2A1R1BAT2A\500
designator C?, comment 1.1pF
CAP CER 1.1PF 200V 0402; Part Number: UQCL2A1R1BAT2A\500; Manufacturer: AVX Corporation; Temperature Coefficient: A; Tolerance: ±0.1pF; Value: 1.1pF; Applications: RF, Microwave, High Frequency; Capacitance: 1.1pF; ComponentLink1Description: Datasheet; ComponentLink1URL: http://datasheets.avx.com/UQ-Series.pdf; ComponentLink2Description: DigiKey Link; ComponentLink2URL: http://digikey.com/product-detail/en/avx-corporation/UQCL2A1R1BAT2A-500/478-6402-1-ND/2512238; Device Package: 0402 (1005 Metric); Features: High Q, Low Loss; LastUpdated: 9/2/2020 1:02:07 AM; Lifecycle Status: Active; Minimum Order: 1; Mounting Type: Surface Mount, MLCC; Operating Temperature: -55°C ~ 125°C; Package / Case: 0402 (1005 Metric); Packaging: TapeAndReel; PartId: 9479; Part Status: Active; Price: 0.31; Series: UQ; Size / Dimension: 0.040" L x 0.020" W (1.02mm x 0.51mm); Supplier 1: DigiKey; Supplier Part Number 1: 478-6402-1-ND; Thickness (Max): 0.024" (0.60mm); Voltage - Rated: 200V
footprint CAP 0402_1005
pins: 1, 2

## UQCL2A1R2BAT2A\500
designator C?, comment 1.2pF
CAP CER 1.2PF 200V 0402; Part Number: UQCL2A1R2BAT2A\500; Manufacturer: AVX Corporation; Temperature Coefficient: A; Tolerance: ±0.1pF; Value: 1.2pF; Applications: RF, Microwave, High Frequency; Capacitance: 1.2pF; ComponentLink1Description: Datasheet; ComponentLink1URL: http://datasheets.avx.com/UQ-Series.pdf; ComponentLink2Description: DigiKey Link; ComponentLink2URL: http://digikey.com/product-detail/en/avx-corporation/UQCL2A1R2BAT2A-500/478-6403-1-ND/2512239; Device Package: 0402 (1005 Metric); Features: High Q, Low Loss; LastUpdated: 9/2/2020 1:02:03 AM; Lifecycle Status: Active; Minimum Order: 1; Mounting Type: Surface Mount, MLCC; Operating Temperature: -55°C ~ 125°C; Package / Case: 0402 (1005 Metric); Packaging: TapeAndReel; PartId: 11287; Part Status: Active; Price: 0.34; Series: UQ; Size / Dimension: 0.040" L x 0.020" W (1.02mm x 0.51mm); Supplier 1: DigiKey; Supplier Part Number 1: 478-6403-1-ND; Thickness (Max): 0.024" (0.60mm); Voltage - Rated: 200V
footprint CAP 0402_1005
pins: 1, 2

## UQCL2A1R6CAT2A\500
designator C?, comment 1.6pF
CAP CER 1.6PF 200V 0402; Part Number: UQCL2A1R6CAT2A\500; Manufacturer: AVX Corporation; Temperature Coefficient: A; Tolerance: ±0.25pF; Value: 1.6pF; Applications: RF, Microwave, High Frequency; Capacitance: 1.6pF; ComponentLink1Description: Datasheet; ComponentLink1URL: http://datasheets.avx.com/UQ-Series.pdf; ComponentLink2Description: DigiKey Link; ComponentLink2URL: http://digikey.com/product-detail/en/avx-corporation/UQCL2A1R6CAT2A-500/478-6405-1-ND/2512241; Device Package: 0402 (1005 Metric); Features: High Q, Low Loss; LastUpdated: 9/2/2020 1:02:18 AM; Lifecycle Status: Active; Minimum Order: 1; Mounting Type: Surface Mount, MLCC; Operating Temperature: -55°C ~ 125°C; Package / Case: 0402 (1005 Metric); Packaging: TapeAndReel; PartId: 4537; Part Status: Active; Price: 0.26; Series: UQ; Size / Dimension: 0.040" L x 0.020" W (1.02mm x 0.51mm); Supplier 1: DigiKey; Supplier Part Number 1: 478-6405-1-ND; Thickness (Max): 0.024" (0.60mm); Voltage - Rated: 200V
footprint CAP 0402_1005
pins: 1, 2

## UQCL2A1R8BAT2A\500
designator C?, comment 1.8pF
CAP CER 1.8PF 200V 0402; Part Number: UQCL2A1R8BAT2A\500; Manufacturer: AVX Corporation; Temperature Coefficient: A; Tolerance: ±0.1pF; Value: 1.8pF; Applications: RF, Microwave, High Frequency; Capacitance: 1.8pF; ComponentLink1Description: Datasheet; ComponentLink1URL: http://datasheets.avx.com/UQ-Series.pdf; ComponentLink2Description: DigiKey Link; ComponentLink2URL: http://digikey.com/product-detail/en/avx-corporation/UQCL2A1R8BAT2A-500/478-6406-1-ND/2512242; Device Package: 0402 (1005 Metric); Features: High Q, Low Loss; LastUpdated: 9/2/2020 1:02:20 AM; Lifecycle Status: Active; Minimum Order: 1; Mounting Type: Surface Mount, MLCC; Operating Temperature: -55°C ~ 125°C; Package / Case: 0402 (1005 Metric); Packaging: TapeAndReel; PartId: 3829; Part Status: Active; Price: 0.37; Series: UQ; Size / Dimension: 0.040" L x 0.020" W (1.02mm x 0.51mm); Supplier 1: DigiKey; Supplier Part Number 1: 478-6406-1-ND; Thickness (Max): 0.024" (0.60mm); Voltage - Rated: 200V
footprint CAP 0402_1005
pins: 1, 2

## UQCL2A2R0BAT2A
designator C?, comment 2pF
CAP CER 2PF 200V 0402; Part Number: UQCL2A2R0BAT2A; Manufacturer: AVX Corporation; Temperature Coefficient: A; Tolerance: ±0.1pF; Value: 2pF; Applications: RF, Microwave, High Frequency; Capacitance: 2pF; ComponentLink1Description: Datasheet; ComponentLink1URL: http://datasheets.avx.com/UQ-Series.pdf; ComponentLink2Description: DigiKey Link; ComponentLink2URL: http://digikey.com/product-detail/en/avx-corporation/UQCL2A2R0BAT2A/478-6407-1-ND/2512243; Device Package: 0402 (1005 Metric); Features: High Q, Low Loss; LastUpdated: 9/2/2020 1:02:10 AM; Lifecycle Status: Active; Minimum Order: 1; Mounting Type: Surface Mount, MLCC; Operating Temperature: -55°C ~ 125°C; Package / Case: 0402 (1005 Metric); Packaging: TapeAndReel; PartId: 8329; Part Status: Active; Price: 0.34; Series: UQ; Size / Dimension: 0.040" L x 0.020" W (1.02mm x 0.51mm); Supplier 1: DigiKey; Supplier Part Number 1: 478-6407-1-ND; Thickness (Max): 0.024" (0.60mm); Voltage - Rated: 200V
footprint CAP 0402_1005
pins: 1, 2

## UQCL2A2R2BAT2A\500
designator C?, comment 2.2pF
CAP CER 2.2PF 200V 0402; Part Number: UQCL2A2R2BAT2A\500; Manufacturer: AVX Corporation; Temperature Coefficient: A; Tolerance: ±0.1pF; Value: 2.2pF; Applications: RF, Microwave, High Frequency; Capacitance: 2.2pF; ComponentLink1Description: Datasheet; ComponentLink1URL: http://datasheets.avx.com/UQ-Series.pdf; ComponentLink2Description: DigiKey Link; ComponentLink2URL: http://digikey.com/product-detail/en/avx-corporation/UQCL2A2R2BAT2A-500/478-6408-1-ND/2512244; Device Package: 0402 (1005 Metric); Features: High Q, Low Loss; LastUpdated: 9/2/2020 1:02:20 AM; Lifecycle Status: Active; Minimum Order: 1; Mounting Type: Surface Mount, MLCC; Operating Temperature: -55°C ~ 125°C; Package / Case: 0402 (1005 Metric); Packaging: TapeAndReel; PartId: 3845; Part Status: Active; Price: 0.34; Series: UQ; Size / Dimension: 0.040" L x 0.020" W (1.02mm x 0.51mm); Supplier 1: DigiKey; Supplier Part Number 1: 478-6408-1-ND; Thickness (Max): 0.024" (0.60mm); Voltage - Rated: 200V
footprint CAP 0402_1005
pins: 1, 2

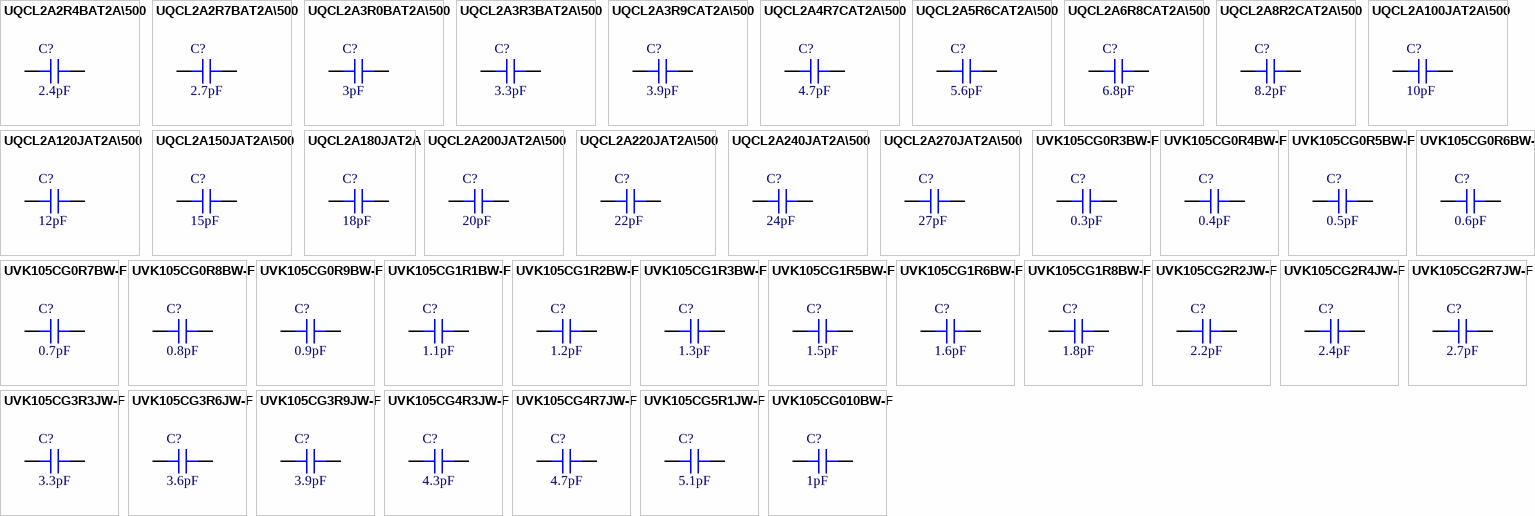
[diagram p111: symbols UQCL2A2R4BAT2A\500 to UVK105CG010BW-F]

## UQCL2A2R4BAT2A\500
designator C?, comment 2.4pF
CAP CER 2.4PF 200V 0402; Part Number: UQCL2A2R4BAT2A\500; Manufacturer: AVX Corporation; Temperature Coefficient: A; Tolerance: ±0.1pF; Value: 2.4pF; Applications: RF, Microwave, High Frequency; Capacitance: 2.4pF; ComponentLink1Description: Datasheet; ComponentLink1URL: http://datasheets.avx.com/UQ-Series.pdf; ComponentLink2Description: DigiKey Link; ComponentLink2URL: http://digikey.com/product-detail/en/avx-corporation/UQCL2A2R4BAT2A-500/478-6409-1-ND/2512245; Device Package: 0402 (1005 Metric); Features: High Q, Low Loss; LastUpdated: 9/2/2020 1:02:10 AM; Lifecycle Status: Active; Minimum Order: 1; Mounting Type: Surface Mount, MLCC; Operating Temperature: -55°C ~ 125°C; Package / Case: 0402 (1005 Metric); Packaging: TapeAndReel; PartId: 8323; Part Status: Active; Price: 0.34; Series: UQ; Size / Dimension: 0.040" L x 0.020" W (1.02mm x 0.51mm); Supplier 1: DigiKey; Supplier Part Number 1: 478-6409-1-ND; Thickness (Max): 0.024" (0.60mm); Voltage - Rated: 200V
footprint CAP 0402_1005
pins: 1, 2

## UQCL2A2R7BAT2A\500
designator C?, comment 2.7pF
CAP CER 2.7PF 200V 0402; Part Number: UQCL2A2R7BAT2A\500; Manufacturer: AVX Corporation; Temperature Coefficient: A; Tolerance: ±0.1pF; Value: 2.7pF; Applications: RF, Microwave, High Frequency; Capacitance: 2.7pF; ComponentLink1Description: Datasheet; ComponentLink1URL: http://datasheets.avx.com/UQ-Series.pdf; ComponentLink2Description: DigiKey Link; ComponentLink2URL: http://digikey.com/product-detail/en/avx-corporation/UQCL2A2R7BAT2A-500/478-6410-1-ND/2512246; Device Package: 0402 (1005 Metric); Features: High Q, Low Loss; LastUpdated: 9/2/2020 1:02:10 AM; Lifecycle Status: Active; Minimum Order: 1; Mounting Type: Surface Mount, MLCC; Operating Temperature: -55°C ~ 125°C; Package / Case: 0402 (1005 Metric); Packaging: TapeAndReel; PartId: 8320; Part Status: Active; Price: 0.34; Series: UQ; Size / Dimension: 0.040" L x 0.020" W (1.02mm x 0.51mm); Supplier 1: DigiKey; Supplier Part Number 1: 478-6410-1-ND; Thickness (Max): 0.024" (0.60mm); Voltage - Rated: 200V
footprint CAP 0402_1005
pins: 1, 2

## UQCL2A3R0BAT2A\500
designator C?, comment 3pF
CAP CER 3PF 200V 0402; Part Number: UQCL2A3R0BAT2A\500; Manufacturer: AVX Corporation; Temperature Coefficient: A; Tolerance: ±0.1pF; Value: 3pF; Applications: RF, Microwave, High Frequency; Capacitance: 3pF; ComponentLink1Description: Datasheet; ComponentLink1URL: http://datasheets.avx.com/UQ-Series.pdf; ComponentLink2Description: DigiKey Link; ComponentLink2URL: http://digikey.com/product-detail/en/avx-corporation/UQCL2A3R0BAT2A-500/478-6411-1-ND/2512247; Device Package: 0402 (1005 Metric); Features: High Q, Low Loss; LastUpdated: 9/2/2020 1:02:20 AM; Lifecycle Status: Active; Minimum Order: 1; Mounting Type: Surface Mount, MLCC; Operating Temperature: -55°C ~ 125°C; Package / Case: 0402 (1005 Metric); Packaging: TapeAndReel; PartId: 3826; Part Status: Active; Price: 0.37; Series: UQ; Size / Dimension: 0.040" L x 0.020" W (1.02mm x 0.51mm); Supplier 1: DigiKey; Supplier Part Number 1: 478-6411-1-ND; Thickness (Max): 0.024" (0.60mm); Voltage - Rated: 200V
footprint CAP 0402_1005
pins: 1, 2

## UQCL2A3R3BAT2A\500
designator C?, comment 3.3pF
CAP CER 3.3PF 200V 0402; Part Number: UQCL2A3R3BAT2A\500; Manufacturer: AVX Corporation; Temperature Coefficient: A; Tolerance: ±0.1pF; Value: 3.3pF; Applications: RF, Microwave, High Frequency; Capacitance: 3.3pF; ComponentLink1Description: Datasheet; ComponentLink1URL: http://datasheets.avx.com/UQ-Series.pdf; ComponentLink2Description: DigiKey Link; ComponentLink2URL: http://digikey.com/product-detail/en/avx-corporation/UQCL2A3R3BAT2A-500/478-6412-1-ND/2512248; Device Package: 0402 (1005 Metric); Features: High Q, Low Loss; LastUpdated: 9/2/2020 1:02:17 AM; Lifecycle Status: Active; Minimum Order: 1; Mounting Type: Surface Mount, MLCC; Operating Temperature: -55°C ~ 125°C; Package / Case: 0402 (1005 Metric); Packaging: TapeAndReel; PartId: 5112; Part Status: Active; Price: 0.43; Series: UQ; Size / Dimension: 0.040" L x 0.020" W (1.02mm x 0.51mm); Supplier 1: DigiKey; Supplier Part Number 1: 478-6412-1-ND; Thickness (Max): 0.024" (0.60mm); Voltage - Rated: 200V
footprint CAP 0402_1005
pins: 1, 2

## UQCL2A3R9CAT2A\500
designator C?, comment 3.9pF
CAP CER 3.9PF 200V 0402; Part Number: UQCL2A3R9CAT2A\500; Manufacturer: AVX Corporation; Temperature Coefficient: A; Tolerance: ±0.25pF; Value: 3.9pF; Applications: RF, Microwave, High Frequency; Capacitance: 3.9pF; ComponentLink1Description: Datasheet; ComponentLink1URL: http://datasheets.avx.com/UQ-Series.pdf; ComponentLink2Description: DigiKey Link; ComponentLink2URL: http://digikey.com/product-detail/en/avx-corporation/UQCL2A3R9CAT2A-500/478-6413-1-ND/2512249; Device Package: 0402 (1005 Metric); Features: High Q, Low Loss; LastUpdated: 9/2/2020 1:02:07 AM; Lifecycle Status: Active; Minimum Order: 1; Mounting Type: Surface Mount, MLCC; Operating Temperature: -55°C ~ 125°C; Package / Case: 0402 (1005 Metric); Packaging: TapeAndReel; PartId: 9490; Part Status: Active; Price: 0.30; Series: UQ; Size / Dimension: 0.040" L x 0.020" W (1.02mm x 0.51mm); Supplier 1: DigiKey; Supplier Part Number 1: 478-6413-1-ND; Thickness (Max): 0.024" (0.60mm); Voltage - Rated: 200V
footprint CAP 0402_1005
pins: 1, 2

## UQCL2A4R7CAT2A\500
designator C?, comment 4.7pF
CAP CER 4.7PF 200V 0402; Part Number: UQCL2A4R7CAT2A\500; Manufacturer: AVX Corporation; Temperature Coefficient: A; Tolerance: ±0.25pF; Value: 4.7pF; Applications: RF, Microwave, High Frequency; Capacitance: 4.7pF; ComponentLink1Description: Datasheet; ComponentLink1URL: http://datasheets.avx.com/UQ-Series.pdf; ComponentLink2Description: DigiKey Link; ComponentLink2URL: http://digikey.com/product-detail/en/avx-corporation/UQCL2A4R7CAT2A-500/478-6414-1-ND/2512250; Device Package: 0402 (1005 Metric); Features: High Q, Low Loss; LastUpdated: 9/2/2020 1:01:45 AM; Lifecycle Status: Active; Minimum Order: 1; Mounting Type: Surface Mount, MLCC; Operating Temperature: -55°C ~ 125°C; Package / Case: 0402 (1005 Metric); Packaging: TapeAndReel; PartId: 12373; Part Status: Active; Price: 0.28; Series: UQ; Size / Dimension: 0.040" L x 0.020" W (1.02mm x 0.51mm); Supplier 1: DigiKey; Supplier Part Number 1: 478-6414-1-ND; Thickness (Max): 0.024" (0.60mm); Voltage - Rated: 200V
footprint CAP 0402_1005
pins: 1, 2

## UQCL2A5R6CAT2A\500
designator C?, comment 5.6pF
CAP CER 5.6PF 200V 0402; Part Number: UQCL2A5R6CAT2A\500; Manufacturer: AVX Corporation; Temperature Coefficient: A; Tolerance: ±0.25pF; Value: 5.6pF; Applications: RF, Microwave, High Frequency; Capacitance: 5.6pF; ComponentLink1Description: Datasheet; ComponentLink1URL: http://datasheets.avx.com/UQ-Series.pdf; ComponentLink2Description: DigiKey Link; ComponentLink2URL: http://digikey.com/product-detail/en/avx-corporation/UQCL2A5R6CAT2A-500/478-6415-1-ND/2512251; Device Package: 0402 (1005 Metric); Features: High Q, Low Loss; LastUpdated: 9/2/2020 1:02:03 AM; Lifecycle Status: Active; Minimum Order: 1; Mounting Type: Surface Mount, MLCC; Operating Temperature: -55°C ~ 125°C; Package / Case: 0402 (1005 Metric); Packaging: TapeAndReel; PartId: 11280; Part Status: Active; Price: 0.33; Series: UQ; Size / Dimension: 0.040" L x 0.020" W (1.02mm x 0.51mm); Supplier 1: DigiKey; Supplier Part Number 1: 478-6415-1-ND; Thickness (Max): 0.024" (0.60mm); Voltage - Rated: 200V
footprint CAP 0402_1005
pins: 1, 2

## UQCL2A6R8CAT2A\500
designator C?, comment 6.8pF
CAP CER 6.8PF 200V 0402; Part Number: UQCL2A6R8CAT2A\500; Manufacturer: AVX Corporation; Temperature Coefficient: A; Tolerance: ±0.25pF; Value: 6.8pF; Applications: RF, Microwave, High Frequency; Capacitance: 6.8pF; ComponentLink1Description: Datasheet; ComponentLink1URL: http://datasheets.avx.com/UQ-Series.pdf; ComponentLink2Description: DigiKey Link; ComponentLink2URL: http://digikey.com/product-detail/en/avx-corporation/UQCL2A6R8CAT2A-500/478-6416-1-ND/2512252; Device Package: 0402 (1005 Metric); Features: High Q, Low Loss; LastUpdated: 9/2/2020 1:02:10 AM; Lifecycle Status: Active; Minimum Order: 1; Mounting Type: Surface Mount, MLCC; Operating Temperature: -55°C ~ 125°C; Package / Case: 0402 (1005 Metric); Packaging: TapeAndReel; PartId: 7992; Part Status: Active; Price: 0.46; Series: UQ; Size / Dimension: 0.040" L x 0.020" W (1.02mm x 0.51mm); Supplier 1: DigiKey; Supplier Part Number 1: 478-6416-1-ND; Thickness (Max): 0.024" (0.60mm); Voltage - Rated: 200V
footprint CAP 0402_1005
pins: 1, 2

## UQCL2A8R2CAT2A\500
designator C?, comment 8.2pF
CAP CER 8.2PF 200V 0402; Part Number: UQCL2A8R2CAT2A\500; Manufacturer: AVX Corporation; Temperature Coefficient: A; Tolerance: ±0.25pF; Value: 8.2pF; Applications: RF, Microwave, High Frequency; Capacitance: 8.2pF; ComponentLink1Description: Datasheet; ComponentLink1URL: http://datasheets.avx.com/UQ-Series.pdf; ComponentLink2Description: DigiKey Link; ComponentLink2URL: http://digikey.com/product-detail/en/avx-corporation/UQCL2A8R2CAT2A-500/478-6417-1-ND/2512253; Device Package: 0402 (1005 Metric); Features: High Q, Low Loss; LastUpdated: 9/2/2020 1:02:10 AM; Lifecycle Status: Active; Minimum Order: 1; Mounting Type: Surface Mount, MLCC; Operating Temperature: -55°C ~ 125°C; Package / Case: 0402 (1005 Metric); Packaging: TapeAndReel; PartId: 7990; Part Status: Active; Price: 0.46; Series: UQ; Size / Dimension: 0.040" L x 0.020" W (1.02mm x 0.51mm); Supplier 1: DigiKey; Supplier Part Number 1: 478-6417-1-ND; Thickness (Max): 0.024" (0.60mm); Voltage - Rated: 200V
footprint CAP 0402_1005
pins: 1, 2

## UQCL2A100JAT2A\500
designator C?, comment 10pF
CAP CER 10PF 200V 0402; Part Number: UQCL2A100JAT2A\500; Manufacturer: AVX Corporation; Temperature Coefficient: A; Tolerance: ±5%; Value: 10pF; Applications: RF, Microwave, High Frequency; Capacitance: 10pF; ComponentLink1Description: Datasheet; ComponentLink1URL: http://datasheets.avx.com/UQ-Series.pdf; ComponentLink2Description: DigiKey Link; ComponentLink2URL: http://digikey.com/product-detail/en/avx-corporation/UQCL2A100JAT2A-500/478-6418-1-ND/2512254; Device Package: 0402 (1005 Metric); Features: High Q, Low Loss; LastUpdated: 9/2/2020 1:02:07 AM; Lifecycle Status: Active; Minimum Order: 1; Mounting Type: Surface Mount, MLCC; Operating Temperature: -55°C ~ 125°C; Package / Case: 0402 (1005 Metric); Packaging: TapeAndReel; PartId: 9475; Part Status: Active; Price: 0.31; Series: UQ; Size / Dimension: 0.040" L x 0.020" W (1.02mm x 0.51mm); Supplier 1: DigiKey; Supplier Part Number 1: 478-6418-1-ND; Thickness (Max): 0.024" (0.60mm); Voltage - Rated: 200V
footprint CAP 0402_1005
pins: 1, 2

## UQCL2A120JAT2A\500
designator C?, comment 12pF
CAP CER 12PF 200V 0402; Part Number: UQCL2A120JAT2A\500; Manufacturer: AVX Corporation; Temperature Coefficient: A; Tolerance: ±5%; Value: 12pF; Applications: RF, Microwave, High Frequency; Capacitance: 12pF; ComponentLink1Description: Datasheet; ComponentLink1URL: http://datasheets.avx.com/UQ-Series.pdf; ComponentLink2Description: DigiKey Link; ComponentLink2URL: http://digikey.com/product-detail/en/avx-corporation/UQCL2A120JAT2A-500/478-6419-1-ND/2512255; Device Package: 0402 (1005 Metric); Features: High Q, Low Loss; LastUpdated: 9/2/2020 1:02:04 AM; Lifecycle Status: Active; Minimum Order: 1; Mounting Type: Surface Mount, MLCC; Operating Temperature: -55°C ~ 125°C; Package / Case: 0402 (1005 Metric); Packaging: TapeAndReel; PartId: 10997; Part Status: Active; Price: 0.31; Series: UQ; Size / Dimension: 0.040" L x 0.020" W (1.02mm x 0.51mm); Supplier 1: DigiKey; Supplier Part Number 1: 478-6419-1-ND; Thickness (Max): 0.024" (0.60mm); Voltage - Rated: 200V
footprint CAP 0402_1005
pins: 1, 2

## UQCL2A150JAT2A\500
designator C?, comment 15pF
CAP CER 15PF 200V 0402; Part Number: UQCL2A150JAT2A\500; Manufacturer: AVX Corporation; Temperature Coefficient: A; Tolerance: ±5%; Value: 15pF; Applications: RF, Microwave, High Frequency; Capacitance: 15pF; ComponentLink1Description: Datasheet; ComponentLink1URL: http://datasheets.avx.com/UQ-Series.pdf; ComponentLink2Description: DigiKey Link; ComponentLink2URL: http://digikey.com/product-detail/en/avx-corporation/UQCL2A150JAT2A-500/478-6420-1-ND/2512256; Device Package: 0402 (1005 Metric); Features: High Q, Low Loss; LastUpdated: 9/2/2020 1:01:45 AM; Lifecycle Status: Active; Minimum Order: 1; Mounting Type: Surface Mount, MLCC; Operating Temperature: -55°C ~ 125°C; Package / Case: 0402 (1005 Metric); Packaging: TapeAndReel; PartId: 12375; Part Status: Active; Price: 0.31; Series: UQ; Size / Dimension: 0.040" L x 0.020" W (1.02mm x 0.51mm); Supplier 1: DigiKey; Supplier Part Number 1: 478-6420-1-ND; Thickness (Max): 0.024" (0.60mm); Voltage - Rated: 200V
footprint CAP 0402_1005
pins: 1, 2

## UQCL2A180JAT2A
designator C?, comment 18pF
CAP CER 18PF 200V 0402; Part Number: UQCL2A180JAT2A; Manufacturer: AVX Corporation; Temperature Coefficient: A; Tolerance: ±5%; Value: 18pF; Applications: RF, Microwave, High Frequency; Capacitance: 18pF; ComponentLink1Description: Datasheet; ComponentLink1URL: http://datasheets.avx.com/UQ-Series.pdf; ComponentLink2Description: DigiKey Link; ComponentLink2URL: http://digikey.com/product-detail/en/avx-corporation/UQCL2A180JAT2A/478-6421-1-ND/2512257; Device Package: 0402 (1005 Metric); Features: High Q, Low Loss; LastUpdated: 9/2/2020 1:02:07 AM; Lifecycle Status: Active; Minimum Order: 1; Mounting Type: Surface Mount, MLCC; Operating Temperature: -55°C ~ 125°C; Package / Case: 0402 (1005 Metric); Packaging: TapeAndReel; PartId: 9494; Part Status: Active; Price: 0.34; Series: UQ; Size / Dimension: 0.040" L x 0.020" W (1.02mm x 0.51mm); Supplier 1: DigiKey; Supplier Part Number 1: 478-6421-1-ND; Thickness (Max): 0.024" (0.60mm); Voltage - Rated: 200V
footprint CAP 0402_1005
pins: 1, 2

## UQCL2A200JAT2A\500
designator C?, comment 20pF
CAP CER 20PF 200V 0402; Part Number: UQCL2A200JAT2A\500; Manufacturer: AVX Corporation; Temperature Coefficient: A; Tolerance: ±5%; Value: 20pF; Applications: RF, Microwave, High Frequency; Capacitance: 20pF; ComponentLink1Description: Datasheet; ComponentLink1URL: http://datasheets.avx.com/UQ-Series.pdf; ComponentLink2Description: DigiKey Link; ComponentLink2URL: http://digikey.com/product-detail/en/avx-corporation/UQCL2A200JAT2A-500/478-6422-1-ND/2512258; Device Package: 0402 (1005 Metric); Features: High Q, Low Loss; LastUpdated: 9/2/2020 1:02:07 AM; Lifecycle Status: Active; Minimum Order: 1; Mounting Type: Surface Mount, MLCC; Operating Temperature: -55°C ~ 125°C; Package / Case: 0402 (1005 Metric); Packaging: TapeAndReel; PartId: 9481; Part Status: Active; Price: 0.31; Series: UQ; Size / Dimension: 0.040" L x 0.020" W (1.02mm x 0.51mm); Supplier 1: DigiKey; Supplier Part Number 1: 478-6422-1-ND; Thickness (Max): 0.024" (0.60mm); Voltage - Rated: 200V
footprint CAP 0402_1005
pins: 1, 2